# Altium footprint library XTAL_SMD_ABM3B.PcbLib: 1 footprints
Each footprint in its own frame and in the unit in brackets; x right, y up, seen from the top. Pads: shape width x height; smd on the part's side, far side on the other; paste and mask are expansions set on the pad; w line width, h text height; cw(c..) or ccw(c..) is an arc to the next point about the centre after c.
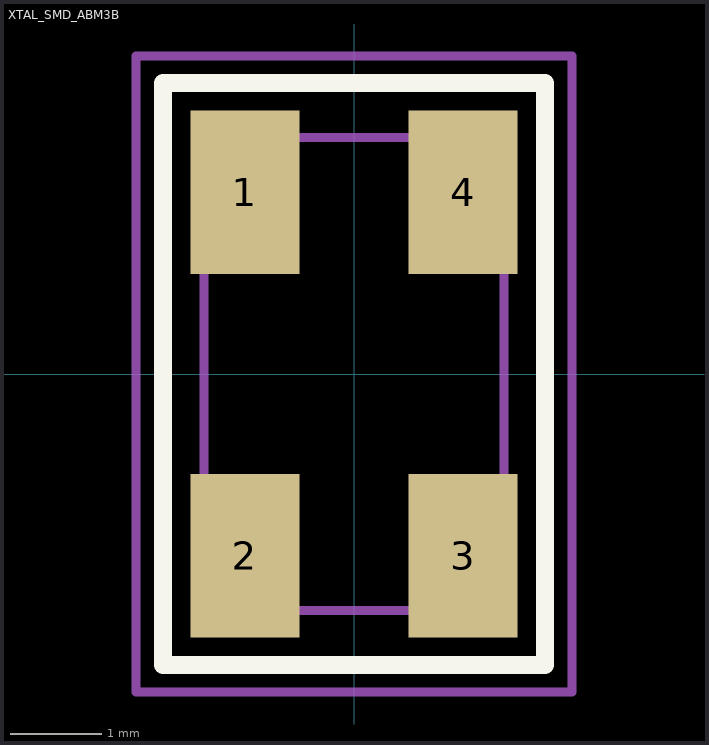
[diagram p0: the footprint, top view; thin cyan lines are the x and y axes]

## XTAL_SMD_ABM3B [mm]
pads (4):
  rect 1.2x1.8 smd: 1(-1.2,2) 2(-1.2,-2) 3(1.2,-2) 4(1.2,2)
Top Overlay:
  lines w0.2: -0.2,3.2 2.1,3.2 2.1,-3.2 -2.1,-3.2 -2.1,3.2 0.2,3.2
Mechanical 13:
  lines w0.1: -1.65,-2.6 1.65,-2.6 1.65,2.6 -1.65,2.6 -1.65,-2.6
Mechanical 15:
  lines w0.1: -2.4,-3.5 2.4,-3.5 2.4,3.5 -2.4,3.5 -2.4,-3.5
3D body: height 1.11, standoff 0, extent -1.6,-2.5 1.6,2.5